# Altium integrated library SIMetrix Devices.IntLib: 24 symbols
Pins are listed as number, name and electrical type; pins without a type are passive.

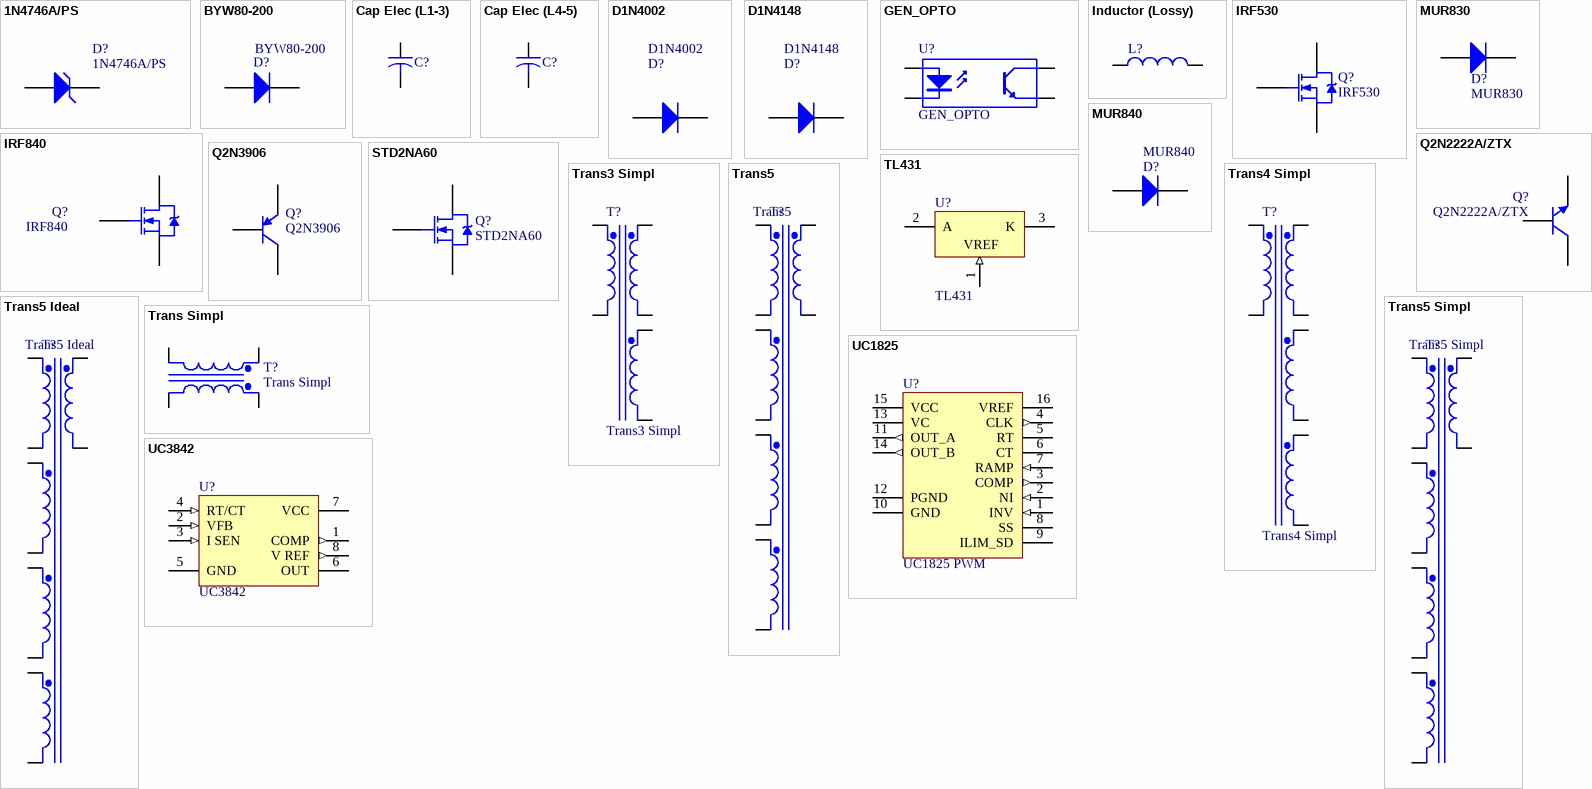
[diagram p0: symbols 1N4746A/PS to UC3842]

## 1N4746A/PS
designator D?
One Watt Hermetically Sealed Glass Silicon Zener Diode; Published: 29-Sep-2000; LatestRevisionDate: 17-Jul-2002; LatestRevisionNote: Re-released for DXP Platform.; PackageReference: 59-03; Publisher: Altium Limited; PackageDescription: Diode, Axial; Body 5.2 x 2.7 mm (LxDia. max), Lead Dia. 0.86 mm (max); Code_JEDEC: DO-204-AL; ComponentLink1Description: Manufacturer Link; ComponentLink1URL: http://www.onsemi.com/site/products/landing?taxonomyID=194
footprint 59-03 (Diode, Axial; Body 5.2 x 2.7 mm (LxDia. max), Lead Dia. 0.86 mm (max))
simulation model SIMetrix_1N4746A/PS (Diode)
signal-integrity model 1N4746A
pins: 1 A, 2 K

## BYW80-200
designator D?
High-Efficiency Fast Recovery Rectifier Diode; Published: 8-Jun-2000; LatestRevisionDate: 17-Jul-2002; LatestRevisionNote: Re-released for DXP Platform.; PackageDocument: Sep-1996; PackageReference: SMC; Publisher: Altium Limited; Code_JEDEC: DO-214-AB
footprint SMC (DO-214-AB/SMC; 2 C-Bend Leads; Body 7.9 x 5.9 mm, inc. leads (LxW))
signal-integrity model Diode
simulation model SIMetrix_BYW80-200 (Diode)
pins: 1 A, 2 K

## Cap Elec (L1-3)
designator C?  (value not drawn)
Electrolytic Capacitor (Levels 1-3); Published: 23-Sep-2002; PackageReference: CAPR5-4X5; Publisher: Altium Limited
footprint CAPR5-4X5 (Capacitor; 2 Leads)
simulation model SIMPLIS_ELEC_CAP_L13 (Electrolytic Capacitor)
signal-integrity model Cap
pins: 1, 2

## Cap Elec (L4-5)
designator C?  (value not drawn)
Electrolytic Capacitor (Levels 4-5); Published: 23-Sep-2002; PackageReference: CAPR5-4X5; Publisher: Altium Limited
footprint CAPR5-4X5 (Capacitor; 2 Leads)
simulation model SIMPLIS_ELEC_CAP_L45 (Electrolytic Capacitor)
signal-integrity model Cap
pins: 1, 2

## D1N4002
designator D?
1 Amp General Purpose Rectifier; Published: 8-Jun-2000; LatestRevisionDate: 17-Jul-2002; LatestRevisionNote: Re-released for DXP Platform.; DatasheetDocument: 1998; PackageDocument: Aug-1999; PackageReference: DO-41; Publisher: Altium Limited; Code_JEDEC: DO-204-AL; ComponentLink1Description: Manufacturer Link; ComponentLink1URL: http://www.fairchildsemi.com/; ComponentLink2Description: Datasheet; ComponentLink2URL: http://www.fairchildsemi.com/ds/1N%2F1N4001.pdf
footprint DO-41 (Diode, Axial; Body 5.2 x 2.7 mm (LxDia. max), Lead Dia. 0.86 mm (max))
simulation model SIMetrix_D1N4002 (D1N4002 model from SIMetrix/SIMPLIS model library)
signal-integrity model 1N4002
pins: 1 A, 2 K

## D1N4148
designator D?
High Conductance Fast Diode; Published: 8-Jun-2000; LatestRevisionDate: 17-Jul-2002; LatestRevisionNote: Re-released for DXP Platform.; DatasheetDocument: 1997; PackageReference: DO-35; Publisher: Altium Limited; Code_JEDEC: DO-204-AH; ComponentLink1Description: Manufacturer Link; ComponentLink1URL: http://www.fairchildsemi.com/; ComponentLink2Description: Datasheet; ComponentLink2URL: http://www.fairchildsemi.com/ds/1N%2F1N4148.pdf
footprint DO-35 (Diode, Axial; Body 3.8 x 1.9 mm (LxDia. max), Lead Dia. 0.53 mm (max))
simulation model SIMetrix_D1N4148 (D1N4148 model from SIMetrix/SIMPLIS model library)
signal-integrity model 1N4148
pins: 1 A, 2 K

## GEN_OPTO
designator U?
General-Purpose Optocoupler; Published: 24-Mar-1999; LatestRevisionDate: 04-Mar-2005; LatestRevisionNote: Sch pins 3 & 4 Swapped.; DatasheetDocument: Nov-2003; PackageReference: DIP-4; Publisher: Altium Limited
footprint DIP-4 (DIP; 4 Leads; Row Spacing 7.62 mm; Pitch 2.54 mm)
simulation model GEN_OPTO (General-purpose optocoupler model from Transim circuit templates)
pins: 1 A "Anode", 2 K "Cathode", 3 E "Emitter", 4 C "Collector"

## Inductor (Lossy)
designator L?, comment Lossy Inductor  (value not drawn)
Code_IEC: 1005; Published: 8-Jun-2000; LatestRevisionDate: 17-Jul-2002; LatestRevisionNote: Re-released for DXP Platform.; PackageReference: 0402-A; Publisher: Altium Limited; Code_JEITA: 0402
footprint 0402-A (Chip Inductor; Body 1 x 0.5 mm (LxW typ))
footprint L0603 (Chip Inductor; Body 1.6 x 0.8 mm (LxW typ))
footprint 2012_Chip (2012 Chip; Chip Inductor; Body 2.0 x 1.2 mm (LxW typ))
footprint 2029 (Chip Inductor; Body 2 x 1.2 mm (LxW typ))
footprint 3261 (3216 Chip; Chip Inductor; Body 3.2 x 1.6 mm (LxW typ))
footprint 4564_Chip (4564 Chip; Chip Inductor; Body 4.5 x 6.4 mm (LxW typ))
simulation model SIMetrix_LOSSYL (SIMetrix/SIMPLIS-style Lossy Inductor)
signal-integrity model Inductor
pins: 1, 2

## IRF530
designator Q?
HEXFET N-Channel Power MOSFET; Note: Pin 2 is electrically connected to pin 4.; Published: 8-Jun-2000; LatestRevisionDate: 17-Jul-2002; LatestRevisionNote: Re-released for DXP Platform.; DatasheetVersion: PD-9.307O; PackageVersion: Feb-1997; PackageReference: TO-220AB; Publisher: Altium Limited; PackageDescription: TO, Thru-Hole, Vertical, Heatsink Mounted; 3 In-Line Leads; Pitch 2.54 mm; ComponentLink1Description: Manufacturer Link; ComponentLink1URL: http://www.irf.com/; ComponentLink2Description: Datasheet; ComponentLink2URL: http://www.irf.com/product-info/datasheets/data/irf530.pdf
footprint TO-220AB (TO, Thru-Hole, Vertical, Heatsink Mounted; 3 In-Line Leads; Pitch 2.54 mm)
simulation model SIMetrix_IRF530 (IRF530 model from SIMetrix/SIMPLIS model library)
simulation model IRF530 (IRF530 model from International Rectifier)
pins: 1 G, 2 D, 3 S

## IRF840
designator Q?
HEXFET N-Channel Power MOSFET; Note: Pin 2 is electrically connected to pin 4.; Published: 8-Jun-2000; LatestRevisionDate: 17-Jul-2002; LatestRevisionNote: Re-released for DXP Platform.; DatasheetVersion: PD-9.376H; PackageVersion: Feb-1997; PackageReference: TO-220AB; Publisher: Altium Limited; PackageDescription: TO, Thru-Hole, Vertical, Heatsink Mounted; 3 In-Line Leads; Pitch 2.54 mm; ComponentLink1Description: Manufacturer Link; ComponentLink1URL: http://www.irf.com/; ComponentLink2Description: Datasheet; ComponentLink2URL: http://www.irf.com/product-info/datasheets/data/irf840.pdf
footprint TO-220AB (TO, Thru-Hole, Vertical, Heatsink Mounted; 3 In-Line Leads; Pitch 2.54 mm)
simulation model SIMetrix_IRF840 (IRF840 model from SIMetrix/SIMPLIS model library)
simulation model IRF840 (IRF840 model from International Rectifier)
pins: 1 G, 2 D, 3 S

## MUR830
designator D?
General Purpose Fast Rectifier; PackageReference: TO-220AC
simulation model SIMetrix_MUR830 (MUR830 model from SIMetrix/SIMPLIS model library)
footprint SMC (DO-214-AB/SMC; 2 C-Bend Leads; Body 7.9 x 5.9 mm, inc. leads (LxW))
pins: 1 A, 2 K

## MUR840
designator D?
Ultrafast Recovery Rectifier; Published: 8-Jun-2000; LatestRevisionDate: 17-Jul-2002; LatestRevisionNote: Re-released for DXP Platform.; PackageDocument: Sep-1996; PackageReference: SMC; Publisher: Altium Limited; Code_JEDEC: DO-214-AB
footprint SMC (DO-214-AB/SMC; 2 C-Bend Leads; Body 7.9 x 5.9 mm, inc. leads (LxW))
simulation model SIMetrix_MUR840 (Motorola MUR840 Ultrafast Recovery Rectifier)
signal-integrity model Diode
pins: 1 A, 2 K

## Q2N2222A/ZTX
designator Q?
Zetex General Purpose Transistor NPN Silicon; Published: 29-Sep-2000; LatestRevisionDate: 17-Jul-2002; LatestRevisionNote: Re-released for DXP Platform.; DatasheetVersion: 1991; PackageVersion: 1997; PackageReference: 22-03; Publisher: Altium Limited; PackageDescription: Can; 3 Leads; Pin Circle Dia. 2.54 mm; Lead Dia. 0.48 mm (max); ComponentLink1Description: Manufacturer Link; ComponentLink1URL: http://www.onsemi.com/site/products/landing?taxonomyID=194
simulation model SIMetrix_Q2N2222A/ZTX (NPN)
signal-integrity model 2N2222
footprint TO-18 (Can; 3 Leads; Pin Circle Dia. 2.54 mm; Lead Dia. 0.48 mm (max))
pins: 1 E, 2 B, 3 C

## Q2N3906
designator Q?
PNP General Purpose Amplifier; Published: 8-Jun-2000; LatestRevisionDate: 15-Jan-2003; LatestRevisionNote: PCB Footprint 'BCY-W3/D4.7' replaced; DatasheetDocument: 1997; PackageDocument: Sep-1998; PackageReference: TO-92A; Publisher: Altium Limited; Code_JEDEC: TO-92A; ComponentLink1Description: Manufacturer Link; ComponentLink1URL: http://www.fairchildsemi.com/; ComponentLink2Description: Datasheet; ComponentLink2URL: http://www.fairchildsemi.com/ds/2N%2F2N3906.pdf
footprint TO-92A (TO, Flat Index; 3 In-Line, Axial Leads; Body Dia. 4.5mm; Leads 0.51 x 0.48 mm (max))
simulation model SIMetrix_Q2N3906 (Q2N3906 model from SIMetrix/SIMPLIS model library)
signal-integrity model 2N3906
pins: 1 E, 2 B, 3 C

## STD2NA60
designator Q?
N-Channel Enhancement Mode Power MOS Transistor; Note: Pin 2 is electrically connected to pin 4.; Published: 8-Jun-2000; LatestRevisionDate: 17-Jul-2002; LatestRevisionNote: Re-released for DXP Platform.; DatasheetVersion: PD-9.307O; PackageVersion: Feb-1997; PackageReference: TO-220AB; Publisher: Altium Limited; PackageDescription: TO, Thru-Hole, Vertical, Heatsink Mounted; 3 In-Line Leads; Pitch 2.54 mm; ComponentLink1Description: Manufacturer Link; ComponentLink1URL: http://www.irf.com/; ComponentLink2Description: Datasheet; ComponentLink2URL: http://www.irf.com/product-info/datasheets/data/irf530.pdf
footprint TO-220AB (TO, Thru-Hole, Vertical, Heatsink Mounted; 3 In-Line Leads; Pitch 2.54 mm)
simulation model SIMetrix_STD2NA60 (STD2NA60 model from SIMetrix/SIMPLIS model library)
simulation model STD2NA60 (STD2NA60 model from ST Microelectronics)
pins: 1 G, 2 D, 3 S

## TL431
designator U?
Adjustable Precision Shunt Regulator; Published: 15-Apr-2002; LatestRevisionDate: 06-Jun-2005; LatestRevisionNote: Sch pins 1 & 3 swapped; DatasheetVersion: Oct-2000; PackageVersion: Nov-2001; PackageReference: LP03; Publisher: Altium Limited; PackageDescription: TO, Flat Index; 3 In-Line, Axial Leads; Body Dia. 4.8mm; Leads 0.56 x 0.41 mm (max); Code_JEDEC: TO-226-AA; ComponentLink1Description: Manufacturer Link; ComponentLink1URL: http://www.ti.com/; ComponentLink2Description: Datasheet; ComponentLink2URL: http://www-s.ti.com/sc/ds/tl431a.pdf
footprint LP03 (TO, Flat Index; 3 In-Line, Axial Leads; Body Dia. 4.8mm; Leads 0.56 x 0.41 mm (max))
simulation model SIMetrix_TL431/TI (TL431 model from Texas Instruments)
simulation model SIMPLIS_TL431 (Native SIMPLIS TL431 model from SIMetrix/SIMPLIS model library)
pins: 1 VREF (in), 2 A (power), 3 K (power)

## Trans3 Simpl
designator T?
Three-winding Transformer (Simplified Model); Sim Note: Enter the turns ratios, Core loss resistance, Magnetising Reactance, Leakage Reactances and Resistances referred to the primary side into the parameter fields.; Published: 25-Jan-2001; LatestRevisionDate: 17-Jul-2002; LatestRevisionNote: Re-released for DXP Platform.; PackageReference: TRF_6; Publisher: Altium Limited
footprint TRF_6 (Three-winding Transformer (Non-Ideal); 6 Leads)
simulation model SIMPL3WTRANS (Spice Subcircuit)
pins: 1 Pri+, 2 Pri-, 3 Sec1+, 4 Sec1-, 5 Sec2+, 6 Sec2-

## Trans4 Simpl
designator T?
Four-winding Transformer (Simplified Model); Published: 25-Jan-2001; LatestRevisionDate: 17-Jul-2002; LatestRevisionNote: Re-released for DXP Platform.; PackageReference: TRF_8; Publisher: Altium Limited
footprint TRF_8 (Four-winding Transformer (Ideal); 8 Leads)
simulation model SIMPL4WTRANS (Spice Subcircuit)
pins: 1 Pri+, 2 Pri-, 3 Sec1+, 4 Sec1-, 5 Sec2+, 6 Sec2-, 7 Sec3+, 8 Sec3-

## Trans5
designator T?
Five-winding Transformer; Published: 25-Jan-2001; LatestRevisionDate: 17-Jul-2002; LatestRevisionNote: Re-released for DXP Platform.; PackageReference: TRF_8; Publisher: Altium Limited
footprint TRF_10 (Three-winding Transformer (Non-Ideal); 6 Leads)
simulation model NI5WTRANS (Spice Subcircuit)
pins: 1 Pri+, 2 Pri-, 3 Sec1+, 4 Sec1-, 5 Sec2+, 6 Sec2-, 7 Sec3+, 8 Sec3-, 9 Sec4+, 10 Sec4-

## Trans5 Ideal
designator T?
Five-winding Transformer (Ideal); Published: 25-Jan-2001; LatestRevisionDate: 17-Jul-2002; LatestRevisionNote: Re-released for DXP Platform.; PackageReference: TRF_8; Publisher: Altium Limited
footprint TRF_10 (Three-winding Transformer (Non-Ideal); 6 Leads)
simulation model IDEAL5W (Spice Subcircuit)
pins: 1 Pri+, 2 Pri-, 3 Sec1+, 4 Sec1-, 5 Sec2+, 6 Sec2-, 7 Sec3+, 8 Sec3-, 9 Sec4+, 10 Sec4-

## Trans5 Simpl
designator T?
Five-winding Transformer (Simplified Model); Published: 25-Jan-2001; LatestRevisionDate: 17-Jul-2002; LatestRevisionNote: Re-released for DXP Platform.; PackageReference: TRF_8; Publisher: Altium Limited
footprint TRF_10 (Three-winding Transformer (Non-Ideal); 6 Leads)
simulation model SIMPL5WTRANS (Spice Subcircuit)
pins: 1 Pri+, 2 Pri-, 3 Sec1+, 4 Sec1-, 5 Sec2+, 6 Sec2-, 7 Sec3+, 8 Sec3-, 9 Sec4+, 10 Sec4-

## Trans Simpl
designator T?
Transformer (Simplified Model); Published: 8-Jun-2000; LatestRevisionDate: 17-Jul-2002; LatestRevisionNote: Re-released for DXP Platform.; PackageReference: TRF_4; Publisher: Altium Limited
footprint TRF_4 (Transformer (Equivalent Circuit Model); 4 Leads)
simulation model SIMPLTRANS (Spice Subcircuit)
pins: 1 Pri+, 2 Pri-, 3 Sec+, 4 Sec-

## UC1825
designator U?, comment UC1825 PWM
High-Speed PWM Controller
simulation model SIMPLIS_UC1825 (UC1825 model from SIMetrix/SIMPLIS model library)
pins: 1 INV (in) "Inverting input of error amp", 2 NI (in) "Non-inverting input of error amp", 3 COMP (out) "Compensation output for error amp", 4 CLK (out), 5 RT, 6 CT, 7 RAMP (in), 8 SS (power) "Soft start", 9 ILIM_SD "Shut down", 10 GND, 11 OUT_A (out) "Output A", 12 PGND "Power Ground", 13 VC (power) "Power VCC", 14 OUT_B (out) "Output B", 15 VCC, 16 VREF (power)

## UC3842
designator U?
High-Performance Current Mode PWM Controller; Published: 24-Aug-2001; LatestRevisionDate: 13-Apr-2006; LatestRevisionNote: IPC-7351 Footprint Added.; DatasheetVersion: Mar-1999; PackageVersion: Dec-2002; PackageReference: SO8; Publisher: Altium Limited; PackageDescription: 8-Pin Small Outline Integrated Circuit 1.27 mm Pitch; Code_JEDEC: MS-012-AA; Code_IPC: SOIC127P600-8; ComponentLink1Description: Manufacturer Link; ComponentLink1URL: http://www.st.com/; ComponentLink2Description: Datasheet; ComponentLink2URL: http://www.st.com/stonline/products/literature/ds/4299/uc3842b.pdf
footprint SO8_N (SOIC, 8-Leads, Body 4.9x3.9mm, Pitch 1.27mm, IPC Medium Density)
footprint SO8_L (SOIC, 8-Leads, Body 4.9x3.9mm, Pitch 1.27mm, IPC High Density)
footprint SO8_M (SOIC, 8-Leads, Body 4.9x3.9mm, Pitch 1.27mm, IPC Low Density)
simulation model UC3842B (UC3842B model from ON Semiconductor)
simulation model SIMetrix_UC3842 (Native SIMetrix UC3842 model from SIMetrix/SIMPLIS model library)
simulation model SIMPLIS_UC3842 (Native SIMPLIS UC3842 model from SIMetrix/SIMPLIS model library)
pins: 1 COMP (out), 2 VFB (in), 3 I SEN (in), 4 RT/CT (in), 5 GND (power), 6 OUT (hiz), 7 VCC (power), 8 V REF (out)